# Altium footprint library CD19FD331JO3.PcbLib: 1 footprints
Each footprint in its own frame and in the unit in brackets; x right, y up, seen from the top. Pads: shape width x height; smd on the part's side, far side on the other; paste and mask are expansions set on the pad; w line width, h text height; cw(c..) or ccw(c..) is an arc to the next point about the centre after c.
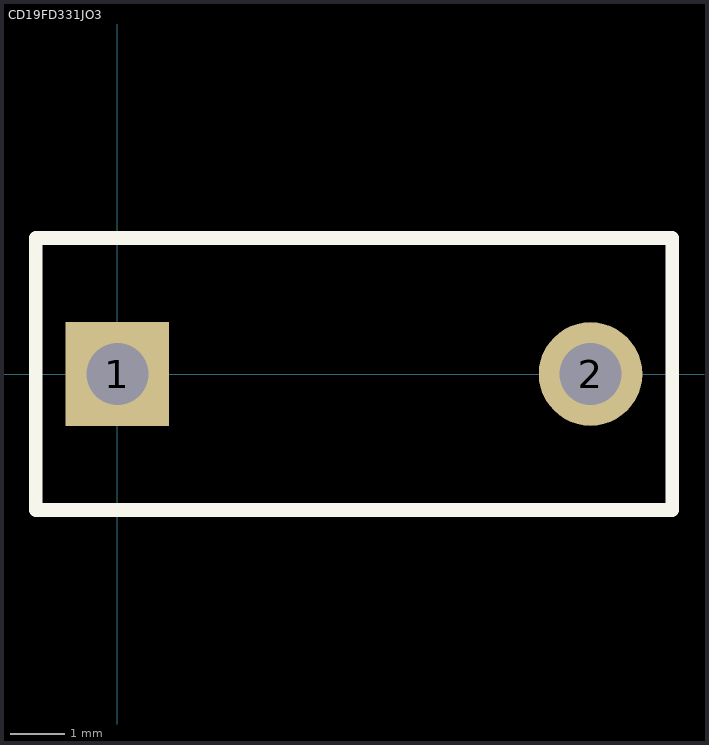
[diagram p0: the footprint, top view; thin cyan lines are the x and y axes]

## CD19FD331JO3 [mil]
pads (2):
  rect 75x75 hole 45: 1(0,0)
  round 75 hole 45: 2(342.52,0)
Top Overlay:
  lines w10: -59.06,-98.43 401.57,-98.43 401.57,98.43 -59.06,98.43 -59.06,-98.43